# Altium footprint library PcbLib1.PcbLib: 5 footprints
Each footprint in its own frame and in the unit in brackets; x right, y up, seen from the top. Pads: shape width x height; smd on the part's side, far side on the other; paste and mask are expansions set on the pad; w line width, h text height; cw(c..) or ccw(c..) is an arc to the next point about the centre after c.
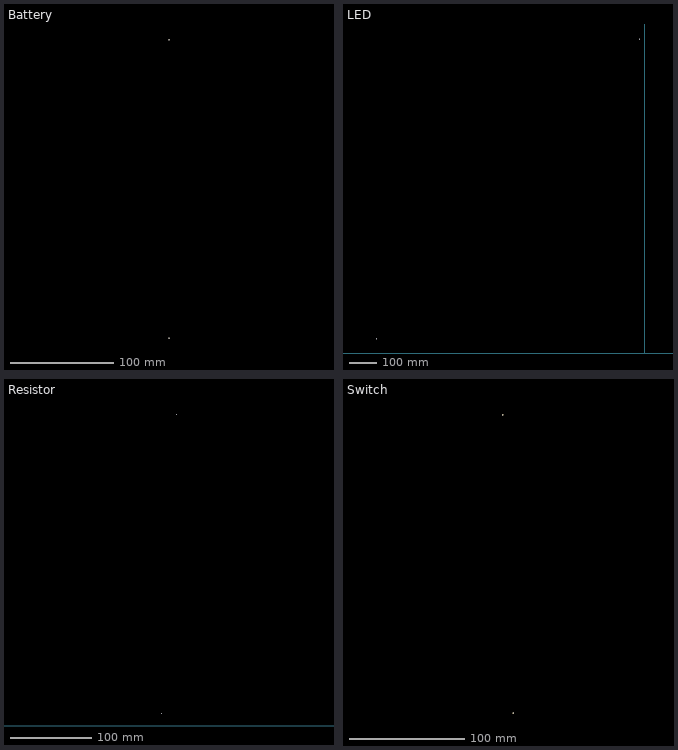
[diagram p0: the footprints below, top view; thin cyan lines are the x and y axes]

## Battery [mil]
pads (2):
  round 60 hole 30: 5(-26210,11985) 6(-26210,605)

## LED [mil]
pads (2):
  round 60 hole 30: 1(-785,44550) 2(-38075,2060)

## PCBComponent_1 [mil]

## Resistor [mil]
pads (2):
  round 60 hole 30: 3(-23545,15010) 4(-24275,605)

## Switch [mil]
pads (2):
  round 60 hole 30: 7(-32990,12830) 8(-32625,2665)